# EAGLE library part AS-ITM-00393 (library tinycircuits)
IC DGTL POT 10K 128TAPS SC70-6
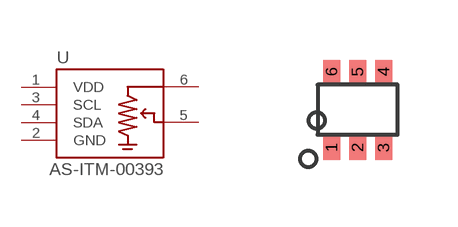
[diagram p161: symbol with the pads of SOT-353-6; footprint SOT-353-6]

Designator prefix U

## AS-ITM-00393 (PARTNO: AS-ITM-00393; VALUE: MCP4018-10K)  [SOT-353-6]
1  VDD
2  GND
3  SCL
4  SDA
5  W
6  A

## Footprint SOT-353-6 (pad centres in mm)
smd 0.42 x 0.6: 1 -0.65,-0.95; 2 0,-0.95; 3 0.65,-0.95; 4 0.65,0.95; 5 0,0.95; 6 -0.65,0.95